# EAGLE library part DIPXX-2A72-21* (library relay_meder)
device mounted on DIL14 socket / diode optional
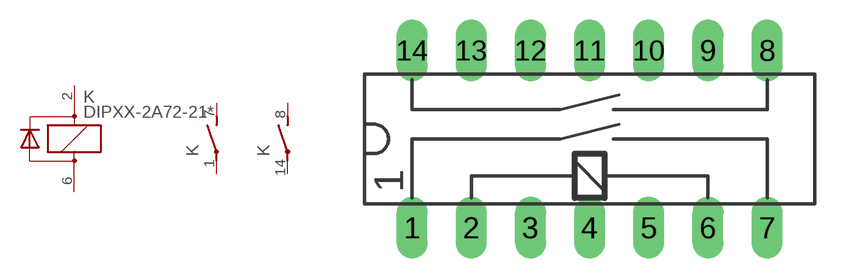
[diagram p0: symbol with the pads of DIPXX-2A72-21X; footprint DIPXX-2A72-21X]

Designator prefix K; gates G$1=K+-D G$2=S G$3=S

## DIPXX-2A72-21D  [DIPXX-2A72-21X]
1  G$2:P  pas
2  G$1:+  pas
6  G$1:-  pas
7  G$2:S  pas
8  G$3:S  pas
14  G$3:P  pas

## Footprint DIPXX-2A72-21X (pad centres in mm)
mounted on socket DIL14 / diode parallel to coil optional
drill 0.813 long: 1 -7.62,-3.81; 2 -5.08,-3.81; 3 -2.54,-3.81; 4 0,-3.81; 5 2.54,-3.81; 6 5.08,-3.81; 7 7.62,-3.81; 8 7.62,3.81; 9 5.08,3.81; 10 2.54,3.81; 11 0,3.81; 12 -2.54,3.81; 13 -5.08,3.81; 14 -7.62,3.81